# Altium schematic symbol library HCPL-0730.SchLib: 1 symbol
Pins are listed as number, name and electrical type; pins without a type are passive.

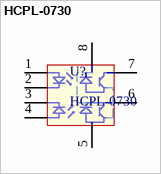
[diagram p0: symbol HCPL-0730]

## HCPL-0730
designator U?
pins: 1, 2, 3, 4, 5, 6, 7, 8